# Altium footprint library USB.PCBLIB: 3 footprints
Each footprint in its own frame and in the unit in brackets; x right, y up, seen from the top. Pads: shape width x height; smd on the part's side, far side on the other; paste and mask are expansions set on the pad; w line width, h text height; cw(c..) or ccw(c..) is an arc to the next point about the centre after c.
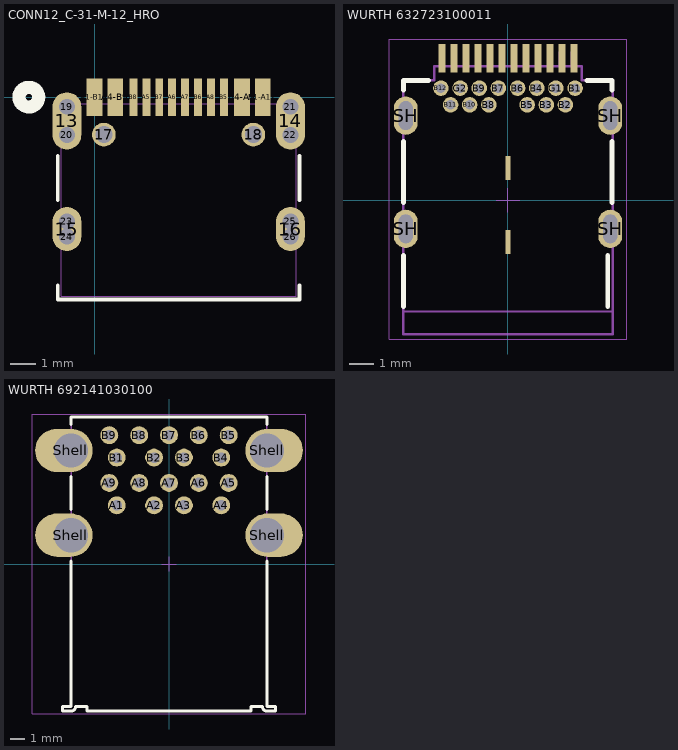
[diagram p0: the footprints below, top view; thin cyan lines are the x and y axes]

## CONN12_C-31-M-12_HRO [mil]
pads (26):
  oval 44x87 hole 1 mask+0: 13(-42.12,-36.06) 14(298.04,-36.06)
  oval 44x67 hole 1 mask+0: 15(-42.12,-200.63) 16(298.04,-200.63)
  round 36 hole 26: 17(14.18,-56.93) 18(241.74,-56.93)
  round 24 hole 24 unplated: 19(-42.12,-14.56) 20(-42.12,-57.56) 21(298.04,-14.56) 22(298.04,-57.56) 23(-42.12,-189.13) 24(-42.12,-212.13) 25(298.04,-189.13) 26(298.04,-212.13)
  rect 24x57 smd: A1-B12(0,0) A4-B9(31.51,0) B1-A12(255.92,0) B4-A9(224.41,0)
  rect 12x57 smd: A5(78.75,0) A6(118.12,0) A7(137.81,0) A8(177.18,0) B5(196.87,0) B6(157.5,0) B7(98.43,0) B8(59.06,0)
Top Overlay:
  circle w20: c-100,0 r15
  lines w6: -56.04,-286.53 -56.04,-308 311.96,-308 311.96,-286.53 ; -56.04,-156.91 -56.04,-89.78 ; 311.96,-156.91 311.96,-89.78
Bottom Overlay:
  circle w20: c-100,0 r15
Mechanical 13:
  lines w1: -51.04,-303 306.96,-303 306.96,-10 -51.04,-10 -51.04,-303
Multi-Layer:
  lines w24: -42.12,-212.13 -42.12,-189.13 ; -42.12,-57.56 -42.12,-14.56 ; 298.04,-212.13 298.04,-189.13 ; 298.04,-57.56 298.04,-14.56
3D body "HRO_TYPE-C-31-M-12.step": height 124.41, standoff -40.94, extent -48.23,-303.15 304.13,7.87
3D body: height 10, standoff 0, extent 0,0 10,10

## WURTH 632723100011 [mm]
pads (32):
  rect 0.3x1.2 smd: A1(-2.75,5.93) A2(-2.25,5.93) A3(-1.75,5.93) A4(-1.25,5.93) A5(-0.75,5.93) A6(-0.25,5.93) A7(0.25,5.93) A8(0.75,5.93) A9(1.25,5.93) A10(1.75,5.93) A11(2.25,5.93) A12(2.75,5.93)
  round 0.65 hole 0.4: B1(2.8,4.68) B2(2.4,3.98) B3(1.6,3.98) B4(1.2,4.68) B5(0.8,3.98) B6(0.4,4.68) B7(-0.4,4.68) B8(-0.8,3.98) B9(-1.2,4.68) B10(-1.6,3.98) B11(-2.4,3.98) B12(-2.8,4.68) G1(2,4.68) G2(-2,4.68)
  oval 1x1.6 hole 0.6 slot 1.2 at 90 deg: SH(-4.27,-1.2) SH(-4.27,3.53) SH(4.27,-1.2) SH(4.27,3.53)
  rect 0.2x1 smd: Shell(0,-1.75) Shell(0,1.35)
Top Overlay:
  lines w0.2: -4.37,-4.45 -4.37,-2.3 ; -4.37,-0.1 -4.37,2.45 ; -4.37,4.6 -4.37,5 -3.32,5 ; 3.29,5 4.34,5 4.34,4.6 ; 4.17,-4.45 4.17,-2.3 ; 4.34,-0.1 4.34,2.45
Mechanical 2:
  lines w0.1: -4.37,-4.65 4.37,-4.65
  text "PCB Edge" at -1.7,-5.6 h0.61
Mechanical 11:
  lines w0.05: -2.85,5.6 -2.85,6.19 -2.65,6.19 -2.65,5.6 ; -2.35,5.6 -2.35,6.19 -2.15,6.19 -2.15,5.6 ; -1.85,5.6 -1.85,6.19 -1.65,6.19 -1.65,5.6 ; -1.35,5.6 -1.35,6.19 -1.15,6.19 -1.15,5.6 ; -0.85,5.6 -0.85,6.19 -0.65,6.19 -0.65,5.6 ; -0.35,5.6 -0.35,6.19 -0.15,6.19 -0.15,5.6 ; 0.15,5.6 0.15,6.19 0.35,6.19 0.35,5.6 ; 0.65,5.6 0.65,6.19 0.85,6.19 0.85,5.6 ; 1.15,5.6 1.15,6.19 1.35,6.19 1.35,5.6 ; 1.65,5.6 1.65,6.19 1.85,6.19 1.85,5.6 ; 2.15,5.6 2.15,6.19 2.35,6.19 2.35,5.6 ; 2.65,5.6 2.65,6.19 2.85,6.19 2.85,5.6
  lines w0.1: 4.34,-5.6 -4.37,-5.6 -4.37,5 -3.08,5 -3.08,5.6 3.08,5.6 3.08,5 4.37,5 4.37,-5.6
  text ".Designator" at -1.75,-0.75 h1.5
Mechanical 13:
  lines w0.05: -2.85,5.6 -2.85,6.19 -2.65,6.19 -2.65,5.6 ; -2.35,5.6 -2.35,6.19 -2.15,6.19 -2.15,5.6 ; -1.85,5.6 -1.85,6.19 -1.65,6.19 -1.65,5.6 ; -1.35,5.6 -1.35,6.19 -1.15,6.19 -1.15,5.6 ; -0.85,5.6 -0.85,6.19 -0.65,6.19 -0.65,5.6 ; -0.35,5.6 -0.35,6.19 -0.15,6.19 -0.15,5.6 ; 0.15,5.6 0.15,6.19 0.35,6.19 0.35,5.6 ; 0.65,5.6 0.65,6.19 0.85,6.19 0.85,5.6 ; 1.15,5.6 1.15,6.19 1.35,6.19 1.35,5.6 ; 1.65,5.6 1.65,6.19 1.85,6.19 1.85,5.6 ; 2.15,5.6 2.15,6.19 2.35,6.19 2.35,5.6 ; 2.65,5.6 2.65,6.19 2.85,6.19 2.85,5.6
  lines w0.1: 4.34,-5.6 -4.37,-5.6 -4.37,5 -3.08,5 -3.08,5.6 3.08,5.6 3.08,5 4.37,5 4.37,-5.6
Mechanical 15:
  lines w0.05: -0.5,0 0.5,0 ; 0,-0.5 0,0.5 ; -4.97,-5.8 -4.97,6.73 4.97,6.73 4.97,-5.8 -4.97,-5.8
3D body "632723100011.stp": height 3.05, standoff -1.81, extent -4.37,-5.6 4.37,6.194

## WURTH 692141030100 [mm]
pads (22):
  round 1.2 hole 0.7: A1(-3.5,3.93) A2(-1,3.93) A3(1,3.93) A4(3.5,3.93) A5(4,5.43) A6(2,5.43) A7(0,5.43) A8(-2,5.43) A9(-4,5.43) B1(-3.5,7.13) B2(-1,7.13) B3(1,7.13) B4(3.5,7.13) B5(4,8.63) B6(2,8.63) B7(0,8.63) B8(-2,8.63) B9(-4,8.63)
  oval 3.85x2.9 hole 2.3 copper offset -0.475,0: Shell(-6.57,1.93) Shell(-6.57,7.61)
  oval 3.85x2.9 hole 2.3 copper offset 0.475,0: Shell(6.57,1.93) Shell(6.57,7.61)
Top Overlay:
  lines w0.2: -6.55,0.2 -6.55,-9.55 -7.15,-9.55 -7.15,-9.85 -6.56,-9.85 ccw(c-6.55,-9.55) -6.25,-9.55 -5.5,-9.55 -5.5,-9.85 5.5,-9.85 5.5,-9.55 6.25,-9.55 ccw(c6.55,-9.55) 6.56,-9.85 7.15,-9.85 7.15,-9.55 6.55,-9.55 6.55,0.2 ; -6.55,3.66 -6.55,5.85 ; -6.55,9.35 -6.55,9.85 6.55,9.85 6.55,9.35 ; 6.55,3.66 6.55,5.85
Mechanical 11:
  lines w0.1: -7.15,-9.85 -7.15,-9.55 -6.55,-9.55 -6.55,9.85 6.55,9.85 6.55,-9.55 7.15,-9.55 7.15,-9.85 6.56,-9.85 cw(c6.55,-9.55) 6.25,-9.55 5.5,-9.55 5.5,-9.85 -5.5,-9.85 -5.5,-9.55 -6.25,-9.55 cw(c-6.55,-9.55) -6.56,-9.85 -7.15,-9.85
  text ".Designator" at -2.028,-1.412 h1.5
Mechanical 13:
  lines w0.1: -7.15,-9.85 -6.56,-9.85 ccw(c-6.55,-9.55) -6.25,-9.55 -5.5,-9.55 -5.5,-9.85 5.5,-9.85 5.5,-9.55 6.25,-9.55 ccw(c6.55,-9.55) 6.56,-9.85 7.15,-9.85 7.15,-9.55 6.55,-9.55 6.55,9.85 -6.55,9.85 -6.55,-9.55 -7.15,-9.55 -7.15,-9.85
Mechanical 15:
  lines w0.05: -0.5,0 0.5,0 ; 0,-0.5 0,0.5 ; -9.17,-10.05 9.17,-10.05 9.17,10.05 -9.17,10.05 -9.17,-10.05
3D body "692141030100.stp": height 16.16, standoff -3.45, extent -7.794,-9.85 7.792,9.85